# EAGLE library part LSD2325 (library 7Seg Library)
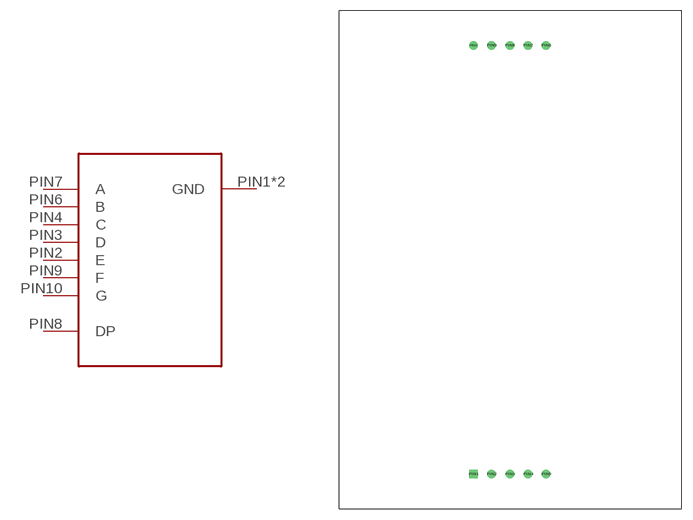
[diagram p0: symbol with the pads of 10PIN; footprint 10PIN]

Designator prefix -

## LSD2325  [10PIN]
PIN1  GND  pwr
PIN2  E  in
PIN3  D  in
PIN4  C  in
PIN5  GND  pwr
PIN6  B  in
PIN7  A  in
PIN8  DP  in
PIN9  F  in
PIN10  G  in

## Footprint 10PIN (pad centres in mm)
drill 0.7 square: PIN1 18.77,4.85
drill 0.7: PIN2 21.31,4.85; PIN3 23.85,4.85; PIN4 26.39,4.85; PIN5 28.93,4.85; PIN6 28.93,64.85; PIN7 26.39,64.85; PIN8 23.85,64.85; PIN9 21.31,64.85; PIN10 18.77,64.85